# Altium schematic symbol library SAMTEC-SSQ-102-02-X-D-RA.SCHLIB: 1 symbol
Pins are listed as number, name and electrical type; pins without a type are passive.

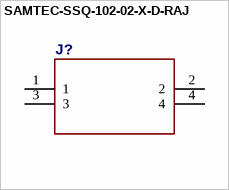
[diagram p0: symbol SAMTEC-SSQ-102-02-X-D-RAJ]

## SAMTEC-SSQ-102-02-X-D-RAJ
designator J?
GateName_1: A; SymbolName_1: SAMTEC-SSQ-102-02-X-D-RAA; DeviceName: J; DeviceSetName: SAMTEC-SSQ-102-02-X-D-RA; LibraryName: SAMTEC-SSQ-102-02-X-D-RA; Package: SAMTEC-SSQ-102-02-X-D-RA
footprint SAMTEC-SSQ-102-02-X-D-RA
pins: 1, 2, 3, 4